# EAGLE library part ER-OLED091 (library ER-OLED)
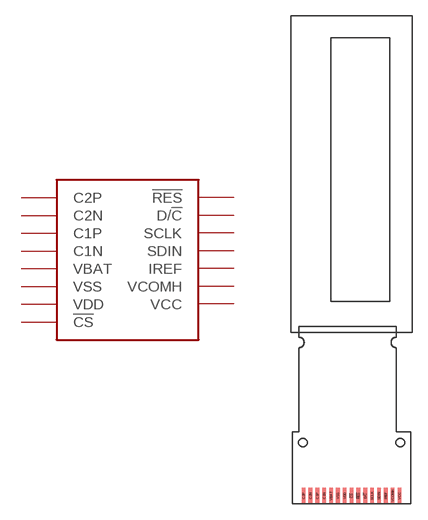
[diagram p2: symbol with the pads of ER-OLED091; footprint ER-OLED091]

Designator prefix -

## ER-OLED091  [ER-OLED091]
!CS  !CS
!RES  !RES
C1N  C1N
C1P  C1P
C2N  C2N
C2P  C2P
D/!C  D/!C
IREF  IREF
SCLK  SCLK
SDIN  SDIN
VBAT  VBAT
VCC  VCC
VCOMH  VCOMH
VDD  VDD
VSS  VSS

## Footprint ER-OLED091 (pad centres in mm)
smd 0.35 x 1.5: !CS 0,0.75; !RES 0.65,0.75; C1N -2.6,0.75; C1P -3.25,0.75; C2N -3.9,0.75; C2P -4.55,0.75; D/!C 1.3,0.75; IREF 3.25,0.75; SCLK 1.95,0.75; SDIN 2.6,0.75; VBAT -1.95,0.75; VCC 4.55,0.75; VCOMH 3.9,0.75; VDD -0.65,0.75; VSS -1.3,0.75